# EAGLE library part OPA355 (library 25AA02E48)
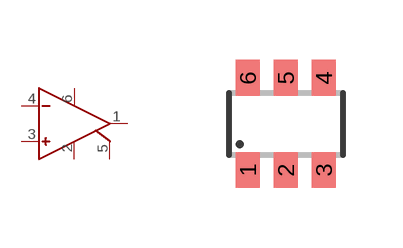
[diagram p2: symbol with the pads of SOT23-6; footprint SOT23-6]

Designator prefix -

## OPA355  [SOT23-6]
1  OUT
2  GND
3  V+
4  V-
5  ENABLE
6  VCC

## Footprint SOT23-6 (pad centres in mm)
Small Outline Transistor 6 lead
smd 0.6 x 0.9: 1 -0.95,-1.15; 2 0,-1.15; 3 0.95,-1.15; 4 0.95,1.15; 5 0,1.15; 6 -0.95,1.15